# EAGLE library part LTC3108 (library wa7iut)
LTC3108 - Ultralow Voltage Step-Up Converter and Power Manager
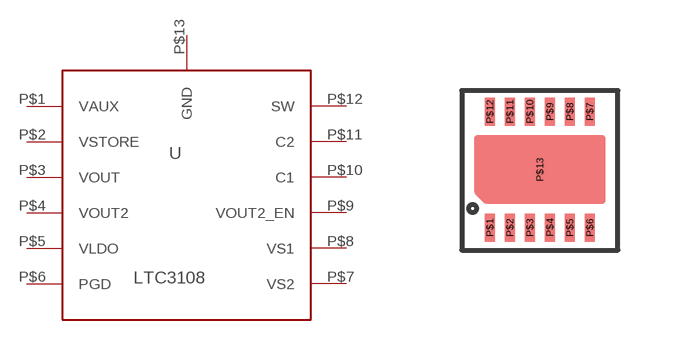
[diagram p2: symbol with the pads of DFN_12; footprint DFN_12]

Designator prefix -

## LTC3108  [DFN_12]
P$1  VAUX
P$2  VSTORE
P$3  VOUT
P$4  VOUT2
P$5  VLDO
P$6  PGD
P$7  VS2
P$8  VS1
P$9  VOUT2_EN
P$10  C1
P$11  C2
P$12  SW
P$13  GND

## Footprint DFN_12 (pad centres in mm)
DFN-12 DE/UE Package http://cds.linear.com/docs/Packaging/DFN_12_05-08-1695.pdf
smd 0.25 x 0.7: P$1 -1.25,-1.45; P$2 -0.75,-1.45; P$3 -0.25,-1.45; P$4 0.25,-1.445; P$5 0.75,-1.45; P$6 1.25,-1.45; P$7 1.25,1.45; P$8 0.75,1.45; P$9 0.25,1.45; P$10 -0.25,1.45; P$11 -0.75,1.45; P$12 -1.25,1.45; P$13 0,0